# EAGLE library part LM13700 (library ElectricNoodleBox)
Dual Transconductance Amplifier with Darlington Buffer
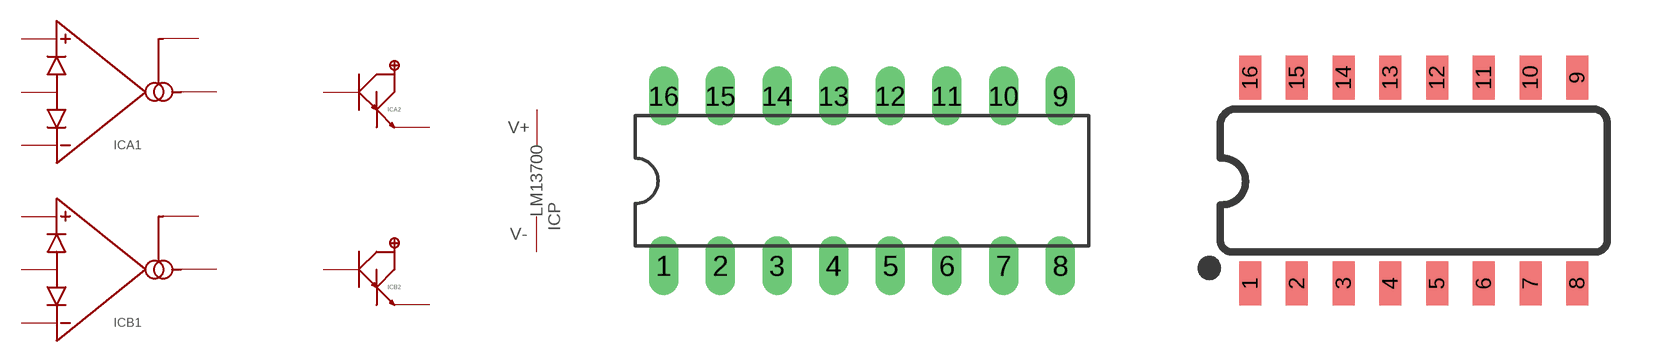
[diagram p2: symbol with the pads of DIL16; footprints DIL16, SO16]

Designator prefix IC; gates A1=LM13700_AMP B1=LM13700_AMP A2=LM13700_BUFFER B2=LM13700_BUFFER P=LM13700_PWR

## LM13700DIL (CATALOGUE: 3118206; RETAILER: Farnell)  [DIL16]
1  A1:AMPBIAS  in
2  A1:DIODES  in
3  A1:AMP+  in
4  A1:AMP-  in
5  A1:AMPOUT  out
6  P:V-  sup
7  A2:BUFF_IN  in
8  A2:BUFF_OUT
9  B2:BUFF_OUT
10  B2:BUFF_IN  in
11  P:V+  sup
12  B1:AMPOUT  out
13  B1:AMP-  in
14  B1:AMP+  in
15  B1:DIODES  in
16  B1:AMPBIAS  in

## LM13700SMD  [SO16]
Pads as for DIL16

## Footprint DIL16 (pad centres in mm)
Dual In Line Package
drill 0.813 long: 1 -8.89,-3.81; 2 -6.35,-3.81; 3 -3.81,-3.81; 4 -1.27,-3.81; 5 1.27,-3.81; 6 3.81,-3.81; 7 6.35,-3.81; 8 8.89,-3.81; 9 8.89,3.81; 10 6.35,3.81; 11 3.81,3.81; 12 1.27,3.81; 13 -1.27,3.81; 14 -3.81,3.81; 15 -6.35,3.81; 16 -8.89,3.81

## Footprint SO16 (pad centres in mm)
SOIC-16 Specifications: Pin count: 16 Width:0.15" Example device(s): HEX_CONVERTER
smd 0.6 x 1.2: 1 -4.445,-2.8; 2 -3.175,-2.8; 3 -1.905,-2.8; 4 -0.635,-2.8; 5 0.635,-2.8; 6 1.905,-2.8; 7 3.175,-2.8; 8 4.445,-2.8; 9 4.445,2.8; 10 3.175,2.8; 11 1.905,2.8; 12 0.635,2.8; 13 -0.635,2.8; 14 -1.905,2.8; 15 -3.175,2.8; 16 -4.445,2.8